# EAGLE library part MAX1501*A (library ic-Maxim)
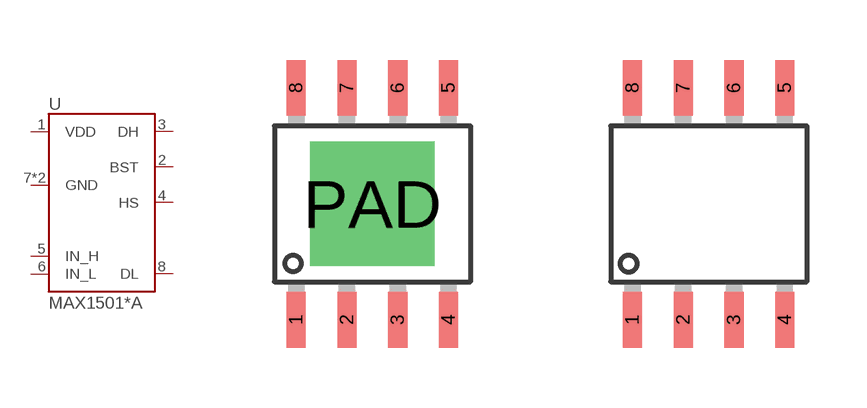
[diagram p0: symbol with the pads of SOP8-PAD; footprints SOP8-PAD, SOP8]

Designator prefix U

## MAX15018A (INPUT: CMOS), MAX15019A (INPUT: TTL)  [SOP8-PAD]
1  VDD  in
2  BST  out
3  DH  out
4  HS  in
5  IN_H  in
6  IN_L  in
7  GND  in
8  DL  out
PAD  GND  in

## MAX15018A-NOPAD (INPUT: CMOS), MAX15019A-NOPAD (INPUT: TTL)  [SOP8]
1  VDD  in
2  BST  out
3  DH  out
4  HS  in
5  IN_H  in
6  IN_L  in
7  GND  in
8  DL  out

## Footprint SOP8-PAD (pad centres in mm)
smd 0.48 x 1.4: 1 -1.905,-2.9; 2 -0.635,-2.9; 3 0.635,-2.9; 4 1.905,-2.9; 5 1.905,2.9; 6 0.635,2.9; 7 -0.635,2.9; 8 -1.905,2.9
drill 2.1 square: PAD 0,0

## Footprint SOP8 (pad centres in mm)
smd 0.48 x 1.4: 1 -1.905,-2.9; 2 -0.635,-2.9; 3 0.635,-2.9; 4 1.905,-2.9; 5 1.905,2.9; 6 0.635,2.9; 7 -0.635,2.9; 8 -1.905,2.9